# Altium footprint library PcbLib2.PcbLib: 46 footprints (part 1 of 3)
Each footprint in its own frame and in the unit in brackets; x right, y up, seen from the top. Pads: shape width x height; smd on the part's side, far side on the other; paste and mask are expansions set on the pad; w line width, h text height; cw(c..) or ccw(c..) is an arc to the next point about the centre after c.
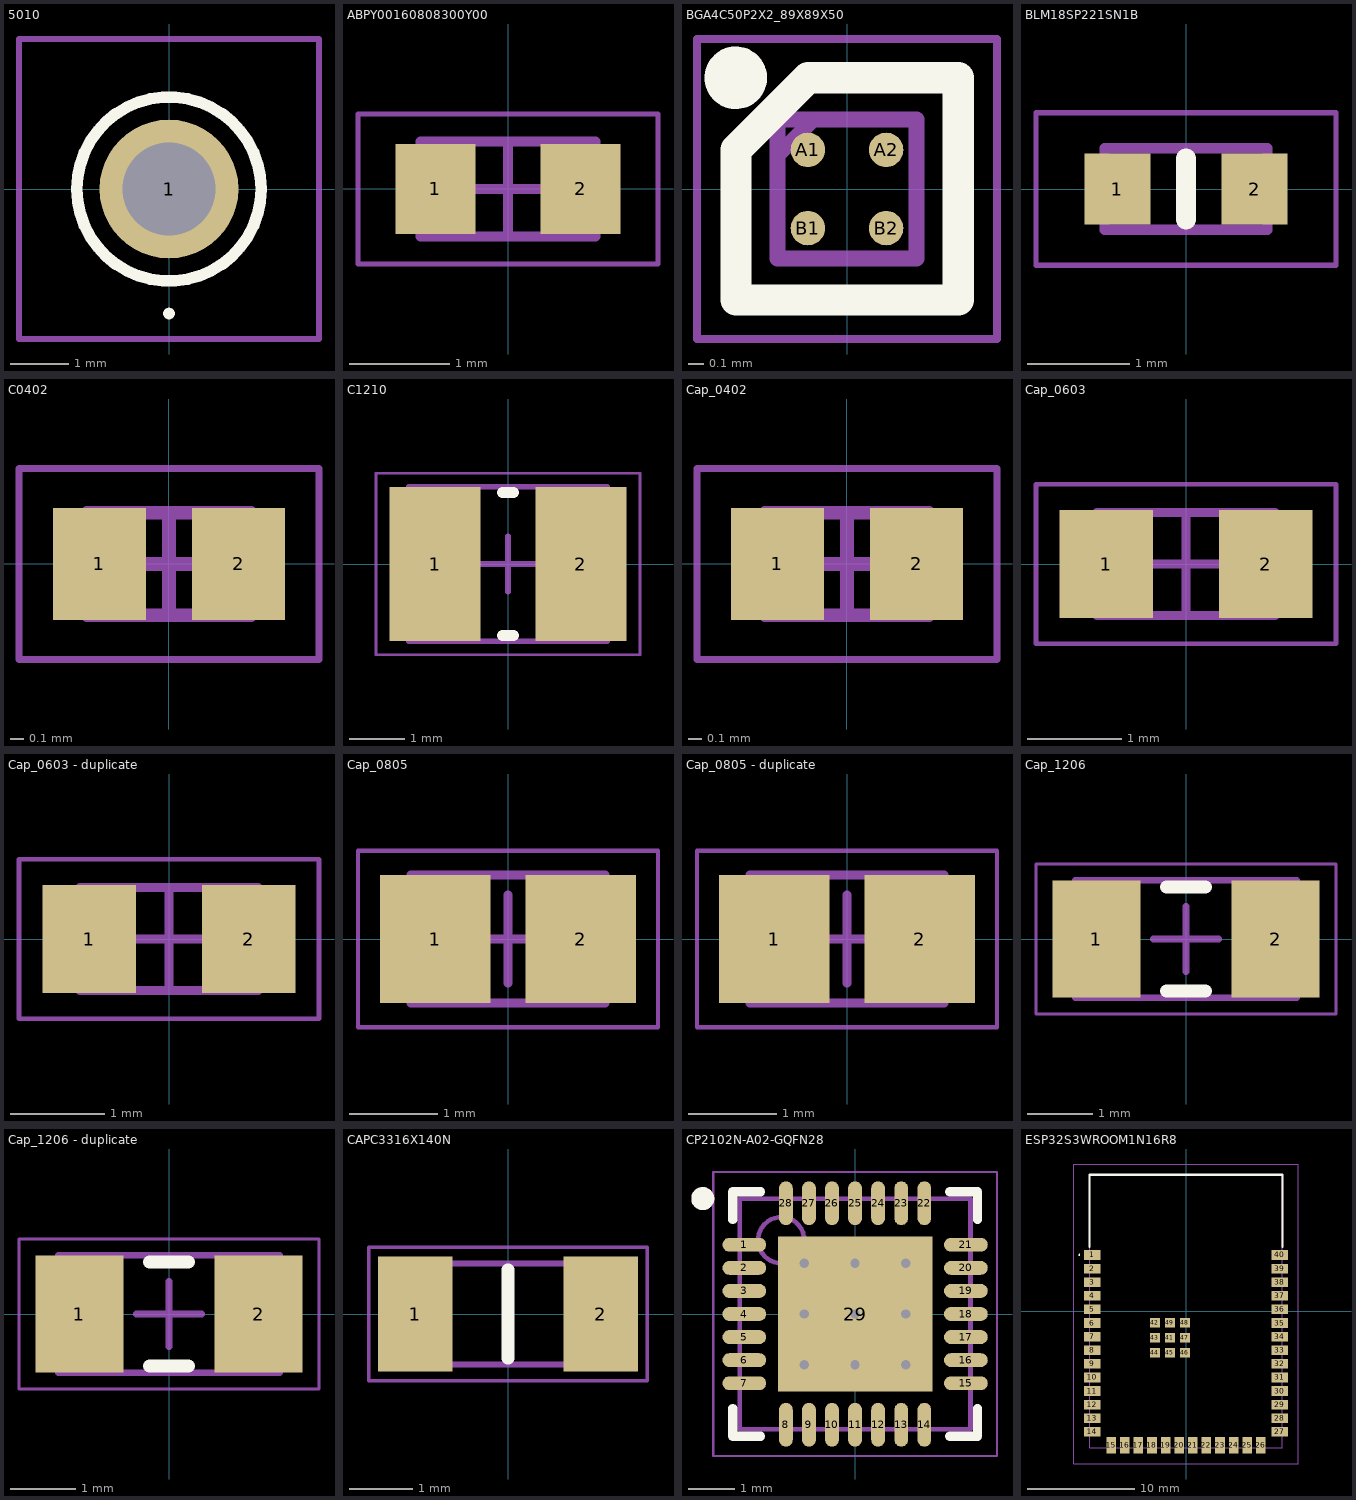
[diagram p0: the footprints below, top view; thin cyan lines are the x and y axes]

## 5010 [mm]
pads (1):
  round 2.4 hole 1.6: 1(0,0)
Top Overlay:
  lines w0.1: 0,-2.2 cw(c0,-2.15) 0,-2.1 cw(c0,-2.15) 0,-2.2
  lines w0.2: -1.59,0 cw(c0,0) 1.59,0 cw(c0,0) -1.59,0
Mechanical 15:
  lines w0.1: -1.59,0 cw(c0,0) 1.59,0 cw(c0,0) -1.59,0
Mechanical 20:
  lines w0.1: -2.59,-2.59 -2.59,2.59 2.59,2.59 2.59,-2.59 -2.59,-2.59

## ABPY00160808300Y00 [mm] "Chip Inductor, 2-Leads, Body 1.60x0.80mm, IPC Medium Density"
height 0.95
pads (2):
  rect 0.8x0.9 smd: 1(-0.725,0) 2(0.725,0)
Mechanical 13:
  lines w0.1: -0.875,-0.475 0.875,-0.475 0.875,0.475 -0.875,0.475 -0.875,-0.475
Mechanical 15:
  lines w0.05: -1.5,-0.75 1.5,-0.75 1.5,0.75 -1.5,0.75 -1.5,-0.75
  lines w0.1: -0.475,0 0.475,0 ; 0,-0.475 0,0.475
3D body "ABPY00160808300Y00.step": height 0.95, standoff 0, extent -0.875,-0.475 0.875,0.475

## BGA4C50P2X2_89X89X50 [mm]
pads (4):
  round 0.221 smd: A1(-0.25,0.25) A2(0.25,0.25) B1(-0.25,-0.25) B2(0.25,-0.25)
Top Overlay:
  circle w0.2: c-0.711,0.711 r0.1
  lines w0.2: -0.25,0.711 0.711,0.711 0.711,-0.71 -0.71,-0.71 -0.71,0.251 -0.249,0.712
Mechanical 15:
  lines w0.1: -0.444,0.214 -0.214,0.444 ; -0.444,-0.444 -0.444,0.444 0.444,0.444 0.444,-0.444 -0.444,-0.444
Mechanical 20:
  lines w0.05: -0.959,-0.959 -0.959,0.959 0.959,0.959 0.959,-0.959 -0.959,-0.959

## BLM18SP221SN1B [mm]
pads (2):
  rect 0.65x0.7 smd: 1(-0.675,0) 2(0.675,0)
Top Overlay:
  lines w0.2: 0,-0.3 0,0.3
Mechanical 15:
  lines w0.1: -0.8,-0.4 -0.8,0.4 0.8,0.4 0.8,-0.4 -0.8,-0.4
Mechanical 20:
  lines w0.05: -1.475,-0.75 -1.475,0.75 1.475,0.75 1.475,-0.75 -1.475,-0.75

## C0402 [mm]
height 0.75
pads (2):
  rect 0.68x0.82 smd: 1(-0.51,0) 2(0.51,0)
Mechanical 13:
  lines w0.1: -0.6,-0.375 0.6,-0.375 0.6,0.375 -0.6,0.375 -0.6,-0.375
Mechanical 15:
  lines w0.05: -1.1,-0.7 1.1,-0.7 1.1,0.7 -1.1,0.7 -1.1,-0.7
  lines w0.1: -0.375,0 0.375,0 ; 0,-0.375 0,0.375
3D body "Cap_0402.step": height 0.75, standoff 0, extent -0.6,-0.375 0.6,0.375

## C1210 [mm]
height 2.7
pads (2):
  rect 1.65x2.8 smd: 1(-1.325,0) 2(1.325,0)
Top Overlay:
  lines w0.2: -0.1,-1.3 0.1,-1.3 ; -0.1,1.3 0.1,1.3
Mechanical 13:
  lines w0.1: -1.8,-1.4 1.8,-1.4 1.8,1.4 -1.8,1.4 -1.8,-1.4
Mechanical 15:
  lines w0.05: -2.4,-1.65 2.4,-1.65 2.4,1.65 -2.4,1.65 -2.4,-1.65
  lines w0.1: -0.5,0 0.5,0 ; 0,-0.5 0,0.5
3D body: height 2.7, standoff 0, extent 1.2,-1.4 1.8,1.4
3D body: height 2.7, standoff 0, extent -1.8,-1.4 -1.2,1.4
3D body: height 2.7, standoff 0, extent -1.2,-1.4 1.2,1.4

## Cap_0402 [mm]
height 0.75
pads (2):
  rect 0.68x0.82 smd: 1(-0.51,0) 2(0.51,0)
Mechanical 13:
  lines w0.1: -0.6,-0.375 0.6,-0.375 0.6,0.375 -0.6,0.375 -0.6,-0.375
Mechanical 15:
  lines w0.05: -1.1,-0.7 1.1,-0.7 1.1,0.7 -1.1,0.7 -1.1,-0.7
  lines w0.1: -0.375,0 0.375,0 ; 0,-0.375 0,0.375
3D body "Cap_0402.step": height 0.75, standoff 0, extent -0.6,-0.375 0.6,0.375

## Cap_0603 [mm] "Chip Capacitor, 2-Leads, Body 1.80x1.00mm, IPC Medium Density"
height 0.8
pads (2):
  rect 1x1.15 smd: 1(-0.85,0) 2(0.85,0)
Mechanical 13:
  lines w0.1: -0.95,-0.55 -0.95,0.55 0.95,0.55 0.95,-0.55 -0.95,-0.55
Mechanical 15:
  lines w0.05: -1.6,-0.85 -1.6,0.85 1.6,0.85 1.6,-0.85 -1.6,-0.85
  lines w0.1: -0.5,0 0.5,0 ; 0,-0.5 0,0.5
3D body "Cap_0603.step": height 0.8, standoff 0, extent -0.95,-0.55 0.95,0.55

## Cap_0603 - duplicate [mm] "Chip Capacitor, 2-Leads, Body 1.80x1.00mm, IPC Medium Density"
height 0.8
pads (2):
  rect 1x1.15 smd: 1(-0.85,0) 2(0.85,0)
Mechanical 13:
  lines w0.1: -0.95,-0.55 0.95,-0.55 0.95,0.55 -0.95,0.55 -0.95,-0.55
Mechanical 15:
  lines w0.05: -1.6,-0.85 1.6,-0.85 1.6,0.85 -1.6,0.85 -1.6,-0.85
  lines w0.1: -0.5,0 0.5,0 ; 0,-0.5 0,0.5
3D body "Cap_0603.step": height 0.8, standoff 0, extent -0.95,-0.55 0.95,0.55

## Cap_0805 [mm] "Chip Capacitor, 2-Leads, Body 2.00x1.25mm, IPC Medium Density"
height 1
pads (2):
  rect 1.25x1.45 smd: 1(-0.825,0) 2(0.825,0)
Mechanical 13:
  lines w0.1: -1.1,-0.725 -1.1,0.725 1.1,0.725 1.1,-0.725 -1.1,-0.725
Mechanical 15:
  lines w0.05: -1.7,-1 -1.7,1 1.7,1 1.7,-1 -1.7,-1
  lines w0.1: -0.5,0 0.5,0 ; 0,-0.5 0,0.5
3D body "Cap_0805.step": height 1.45, standoff 0, extent -1.1,-0.725 1.1,0.725

## Cap_0805 - duplicate [mm] "Chip Capacitor, 2-Leads, Body 2.00x1.25mm, IPC Medium Density"
height 1
pads (2):
  rect 1.25x1.45 smd: 1(-0.825,0) 2(0.825,0)
Mechanical 13:
  lines w0.1: -1.1,-0.725 1.1,-0.725 1.1,0.725 -1.1,0.725 -1.1,-0.725
Mechanical 15:
  lines w0.05: -1.7,-1 1.7,-1 1.7,1 -1.7,1 -1.7,-1
  lines w0.1: -0.5,0 0.5,0 ; 0,-0.5 0,0.5
3D body "Cap_0805.step": height 1.45, standoff 0, extent -1.1,-0.725 1.1,0.725

## Cap_1206 [mm]
height 1.8
pads (2):
  rect 1.35x1.8 smd: 1(-1.375,0) 2(1.375,0)
Top Overlay:
  lines w0.2: -0.3,-0.8 0.3,-0.8 ; -0.3,0.8 0.3,0.8
Mechanical 13:
  lines w0.1: -1.7,-0.9 1.7,-0.9 1.7,0.9 -1.7,0.9 -1.7,-0.9
Mechanical 15:
  lines w0.05: -2.3,-1.15 2.3,-1.15 2.3,1.15 -2.3,1.15 -2.3,-1.15
  lines w0.1: -0.5,0 0.5,0 ; 0,-0.5 0,0.5
3D body "Cap_1206.step": height 1.8, standoff 0, extent -1.7,-0.9 1.7,0.9

## Cap_1206 - duplicate [mm]
height 1.8
pads (2):
  rect 1.35x1.8 smd: 1(-1.375,0) 2(1.375,0)
Top Overlay:
  lines w0.2: -0.3,-0.8 0.3,-0.8 ; -0.3,0.8 0.3,0.8
Mechanical 13:
  lines w0.1: -1.7,-0.9 1.7,-0.9 1.7,0.9 -1.7,0.9 -1.7,-0.9
Mechanical 15:
  lines w0.05: -2.3,-1.15 2.3,-1.15 2.3,1.15 -2.3,1.15 -2.3,-1.15
  lines w0.1: -0.5,0 0.5,0 ; 0,-0.5 0,0.5
3D body "Cap_1206.step": height 1.8, standoff 0, extent -1.7,-0.9 1.7,0.9

## CAPC3316X140N [mm]
pads (2):
  rect 1.18x1.82 smd: 1(-1.47,0) 2(1.47,0)
Top Overlay:
  lines w0.2: 0,-0.7 0,0.7
Mechanical 15:
  lines w0.1: -1.65,-0.8 -1.65,0.8 1.65,0.8 1.65,-0.8 -1.65,-0.8
Mechanical 20:
  lines w0.05: -2.21,-1.06 -2.21,1.06 2.21,1.06 2.21,-1.06 -2.21,-1.06

## CP2102N-A02-GQFN28 [mm] "QFN, 28-Leads, Body 5.00x5.00mm, Pitch 0.50mm, Thermal Pad 3.35x3.35mm, IPC Medium Density"
height 0.8
pads (29):
  oval 0.95x0.3 smd: 1(-2.4,1.5) 2(-2.4,1) 3(-2.4,0.5) 4(-2.4,0) 5(-2.4,-0.5) 6(-2.4,-1) 7(-2.4,-1.5) 15(2.4,-1.5) 16(2.4,-1) 17(2.4,-0.5) 18(2.4,0) 19(2.4,0.5) 20(2.4,1) 21(2.4,1.5)
  oval 0.3x0.95 smd: 8(-1.5,-2.4) 9(-1,-2.4) 10(-0.5,-2.4) 11(0,-2.4) 12(0.5,-2.4) 13(1,-2.4) 14(1.5,-2.4) 22(1.5,2.4) 23(1,2.4) 24(0.5,2.4) 25(0,2.4) 26(-0.5,2.4) 27(-1,2.4) 28(-1.5,2.4)
  rect 3.35x3.35 smd: 29(0,0)
via 1.1,-1.1 diameter 0.5 hole 0.2
via 0,-1.1 diameter 0.5 hole 0.2
via -1.1,-1.1 diameter 0.5 hole 0.2
via 1.1,0 diameter 0.5 hole 0.2
via 0,0 diameter 0.5 hole 0.2
via -1.1,0 diameter 0.5 hole 0.2
via 1.1,1.1 diameter 0.5 hole 0.2
via 0,1.1 diameter 0.5 hole 0.2
via -1.1,1.1 diameter 0.5 hole 0.2
Top Overlay:
  circle w0.25: c-3.3,2.5 r0.125
  lines w0.2: -2.65,-2.05 -2.65,-2.65 -2.05,-2.65 ; -2.65,2.05 -2.65,2.65 -2.05,2.65 ; 2.05,-2.65 2.65,-2.65 2.65,-2.05 ; 2.05,2.65 2.65,2.65 2.65,2.05
Mechanical 13:
  circle w0.1: c-1.6,1.6 r0.5
  lines w0.1: -2.5,-2.5 2.5,-2.5 2.5,2.5 -2.5,2.5 -2.5,-2.5
Mechanical 15:
  lines w0.05: -3.075,-3.075 3.075,-3.075 3.075,3.075 -3.075,3.075 -3.075,-3.075
  lines w0.1: -0.5,0 0.5,0 ; 0,-0.5 0,0.5
3D body "CP2102N-A02-GQFN28.step": height 0.8, standoff 0, extent -2.55,-2.55 2.55,2.55

## ESP32S3WROOM1N16R8 [mm]
pads (49):
  rect 1.5x0.9 smd: 1(-8.75,5.26) 2(-8.75,3.99) 3(-8.75,2.72) 4(-8.75,1.45) 5(-8.75,0.18) 6(-8.75,-1.09) 7(-8.75,-2.36) 8(-8.75,-3.63) 9(-8.75,-4.9) 10(-8.75,-6.17) 11(-8.75,-7.44) 12(-8.75,-8.71) 13(-8.75,-9.98) 14(-8.75,-11.25) 27(8.75,-11.25) 28(8.75,-9.98) 29(8.75,-8.71) 30(8.75,-7.44) 31(8.75,-6.17) 32(8.75,-4.9) 33(8.75,-3.63) 34(8.75,-2.36) 35(8.75,-1.09) 36(8.75,0.18) 37(8.75,1.45) 38(8.75,2.72) 39(8.75,3.99) 40(8.75,5.26)
  rect 0.9x1.5 smd: 15(-6.985,-12.5) 16(-5.715,-12.5) 17(-4.445,-12.5) 18(-3.175,-12.5) 19(-1.905,-12.5) 20(-0.635,-12.5) 21(0.635,-12.5) 22(1.905,-12.5) 23(3.175,-12.5) 24(4.445,-12.5) 25(5.715,-12.5) 26(6.985,-12.5)
  rect 0.9x0.9 smd: 41(-1.5,-2.46) 42(-2.9,-1.06) 43(-2.9,-2.46) 44(-2.9,-3.86) 45(-1.5,-3.86) 46(-0.1,-3.86) 47(-0.1,-2.46) 48(-0.1,-1.06) 49(-1.5,-1.06)
Top Overlay:
  lines w0.1: -10,5.26 cw(c-9.95,5.26) -9.9,5.26 cw(c-9.95,5.26) -10,5.26
  lines w0.2: -9,6 -9,12.75 9,12.75 9,6
Mechanical 15:
  lines w0.1: -9,-12.75 9,-12.75 9,12.75 -9,12.75 -9,-12.75
Mechanical 20:
  lines w0.1: -10.5,-14.25 10.5,-14.25 10.5,13.75 -10.5,13.75 -10.5,-14.25